# Altium schematic symbol library CAP 2700pF 50V.Schlib: 1 symbol
Pins are listed as number, name and electrical type; pins without a type are passive.

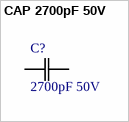
[diagram p0: symbol CAP 2700pF 50V]

## CAP 2700pF 50V
designator C?, comment 2700pF 50V
CAP CER 2700PF 50V X7R 0805; Tolerance: 10%; Package: 0805; Value: 2700pF; Rating: 50V; Temperature Coefficient: X7R; Operating Temperature: -55°C ~ 125°C
footprint 0805
pins: 1 C1, 2 C2